# EAGLE library part MAX9850ETI+ (library max9850)
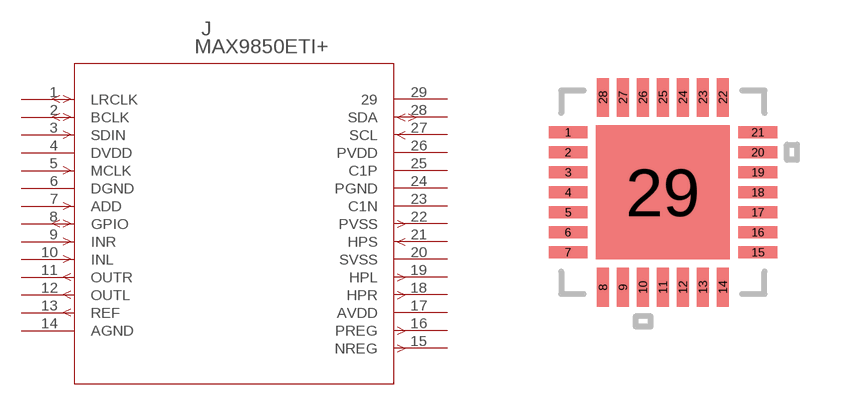
[diagram p0: symbol with the pads of 21-0140L_T2855-3; footprint 21-0140L_T2855-3]

Designator prefix J

## MAX9850ETI+ (DATASHEET: http://datasheets.maxim-ic.com/en/ds/MAX9850.pdf; DESCRIPTION: IC AMP AUDIO .095W STER 28TQFN; DIGIKEYPARTNUMBER: MAX9850ETI+-ND; FEATURES: DAC, Depop, Digital Inputs, I²C, I²S, Line Level Inputs &amp Outputs, Mute, Shutdown, Volume Control; MANUFACTURER_PART_NUMBER: MAX9850ETI+; MOUNTINGTYPE: Surface Mount; OUTPUTTYPE: Headphones, 2-Channel (Stereo); PACKAGING: Tube; QUANTITY_AVAILABLE: 255; SUPPLIERDEVICEPACKAGE: 28-TQFN-EP (5x5); TYPE: Class AB; VENDOR: Maxim Integrated Products; VOLTAGE-SUPPLY: 1.8 V ~ 3.6 V)  [21-0140L_T2855-3]
1  LRCLK
2  BCLK
3  SDIN  in
4  DVDD  pwr
5  MCLK  in
6  DGND  pwr
7  ADD  in
8  GPIO
9  INR  in
10  INL  in
11  OUTR  out
12  OUTL  out
13  REF  out
14  AGND  pwr
15  NREG  out
16  PREG  out
17  AVDD  pwr
18  HPR  out
19  HPL  out
20  SVSS  pwr
21  HPS  in
22  PVSS  out
23  C1N  pas
24  PGND  pwr
25  C1P  pas
26  PVDD  pwr
27  SCL  in
28  SDA
29  29  pas

## Footprint 21-0140L_T2855-3 (pad centres in mm)
smd 0.965 x 0.305: 1 -2.375,1.5; 2 -2.375,1; 3 -2.375,0.5; 4 -2.375,0; 5 -2.375,-0.5; 6 -2.375,-1; 7 -2.375,-1.5; 15 2.375,-1.5; 16 2.375,-1; 17 2.375,-0.5; 18 2.375,0; 19 2.375,0.5; 20 2.375,1; 21 2.375,1.5
smd 0.305 x 0.965: 8 -1.5,-2.375; 9 -1,-2.375; 10 -0.5,-2.375; 11 0,-2.375; 12 0.5,-2.375; 13 1,-2.375; 14 1.5,-2.375; 22 1.5,2.375; 23 1,2.375; 24 0.5,2.375; 25 0,2.375; 26 -0.5,2.375; 27 -1,2.375; 28 -1.5,2.375
smd 3.353 x 3.353: 29 0,0